# Altium schematic symbol library ADM3483EARZ.SchLib: 2 symbols
Pins are listed as number, name and electrical type; pins without a type are passive.

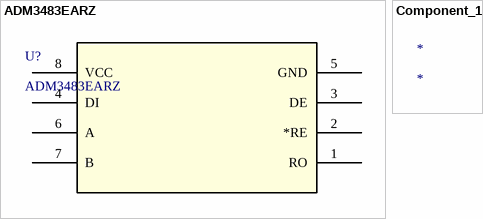
[diagram p0: symbols ADM3483EARZ to Component_1]

## ADM3483EARZ
designator U?
3.3 V, В±15 kV ESD-Protected, RS-485/RS-422 Transceiver (Half Duplex, 250kbps, DE/RE); Manufacturer_Name: Analog Devices Inc; Copyright: Copyright (C) 2025 Ultra Librarian. All rights reserved.; Manufacturer_Part_Number: ADM3483EARZ; Datasheet: https://www.analog.com/media/en/technical-documentation/data-sheets/ADM3483E_3486E_3488E_3490E_3491E.pdf; RefDes: RefDes; Type: Type
footprint R_8_ADI
pins: 1 RO, 2 *RE, 3 DE, 4 DI, 5 GND, 6 A, 7 B, 8 VCC

## Component_1
designator *